# EAGLE library part SI5351A_DEVICE (library _Bachelor-IQModulator)
Si5351A Clock Generator SELF MADE!
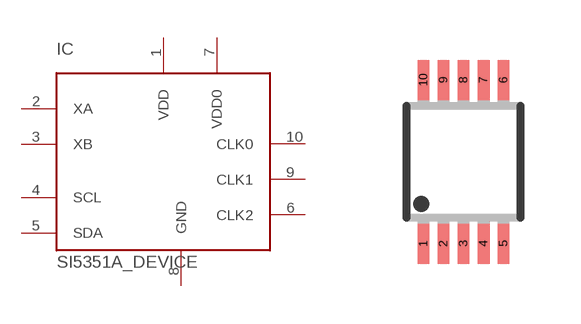
[diagram p2: symbol with the pads of 10-MSOP; footprint 10-MSOP]

Designator prefix IC

## SI5351A_DEVICE_SMD  [10-MSOP]
1  VDD  pwr
2  XA
3  XB
4  SCL
5  SDA
6  CLK2
7  VDD0  pwr
8  GND  pwr
9  CLK1
10  CLK0

## Footprint 10-MSOP (pad centres in mm)
smd 0.3 x 1: 1 -1,-2.05; 2 -0.5,-2.05; 3 0,-2.05; 4 0.5,-2.05; 5 1,-2.05; 6 1,2.05; 7 0.5,2.05; 8 0,2.05; 9 -0.5,2.05; 10 -1,2.05